# Altium schematic symbol library 140УД17А.SchLib: 1 symbol
Pins are listed as number, name and electrical type; pins without a type are passive.

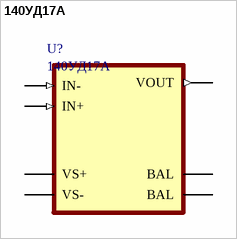
[diagram p0: symbol 140УД17А]

## 140УД17А
designator U?
Precision Op Amp
footprint 140УД17А (Precision Op Amp)
pins: 1 BAL, 2 BAL, 3 IN- (in), 4 IN+ (in), 5 VS- (power), 7 VOUT (out), 8 VS+ (power)